# Altium footprint library CC1101 Module.PcbLib: 4 footprints
Each footprint in its own frame and in the unit in brackets; x right, y up, seen from the top. Pads: shape width x height; smd on the part's side, far side on the other; paste and mask are expansions set on the pad; w line width, h text height; cw(c..) or ccw(c..) is an arc to the next point about the centre after c.
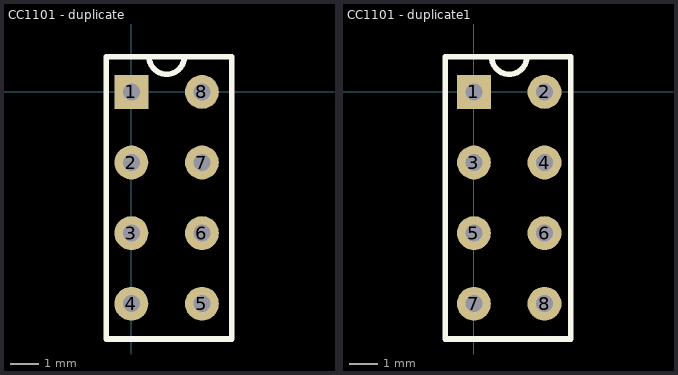
[diagram p0: the footprints below, top view; thin cyan lines are the x and y axes]

## CC1101 [mm]

## CC1101 - duplicate [mm]
pads (8):
  rect 1.2x1.2 hole 0.6: 1(0,0)
  round 1.2 hole 0.6: 2(0,-2.5) 3(0,-5) 4(0,-7.5) 5(2.5,-7.5) 6(2.5,-5) 7(2.5,-2.5) 8(2.5,0)
Top Overlay:
  lines w0.2: -0.889,-8.75 -0.889,1.25 1.875,1.25 cw(c1.25,1.25) 0.625,1.25 3.556,1.25 3.556,-8.75 -0.889,-8.75
3D body: height 7.75, standoff -5.09, extent -1.905,-11.303 77.951,3.556

## CC1101 - duplicate1 [mm]
pads (8):
  rect 1.2x1.2 hole 0.6: 1(0,0)
  round 1.2 hole 0.6: 2(2.5,0) 3(0,-2.5) 4(2.5,-2.5) 5(0,-5) 6(2.5,-5) 7(0,-7.5) 8(2.5,-7.5)
Top Overlay:
  lines w0.2: -1.016,-8.75 -1.016,1.25 1.875,1.25 cw(c1.25,1.25) 0.625,1.25 3.429,1.25 3.429,-8.75 -1.016,-8.75
3D body: height 10.75, standoff -2.09, extent -1.905,-11.303 77.951,3.556

## PCBComponent_1 [mm]